# EAGLE library part ZIF_SOCKET-14 (library Eagle3D-ZIF_Sockets)
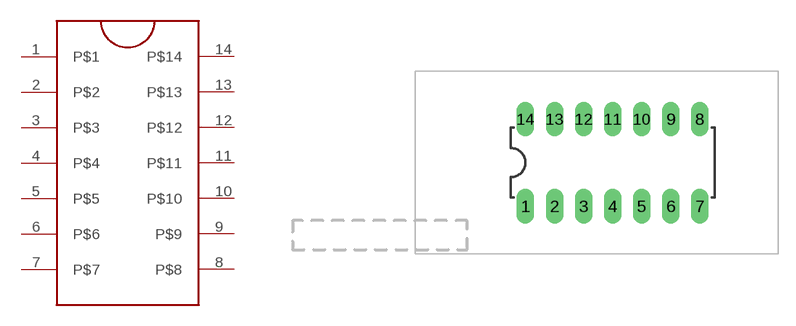
[diagram p1: symbol with the pads of DIL14-ZIF_SOCKET; footprint DIL14-ZIF_SOCKET]

Designator prefix SCK

## ZIF_SOCKET-14  [DIL14-ZIF_SOCKET]
1  P$1
2  P$2
3  P$3
4  P$4
5  P$5
6  P$6
7  P$7
8  P$8
9  P$9
10  P$10
11  P$11
12  P$12
13  P$13
14  P$14

## Footprint DIL14-ZIF_SOCKET (pad centres in mm)
drill 1 long: 1 -7.62,-3.81; 2 -5.08,-3.81; 3 -2.54,-3.81; 4 0,-3.81; 5 2.54,-3.81; 6 5.08,-3.81; 7 7.62,-3.81; 8 7.62,3.81; 9 5.08,3.81; 10 2.54,3.81; 11 0,3.81; 12 -2.54,3.81; 13 -5.08,3.81; 14 -7.62,3.81